# Altium integrated library AD8065.IntLib: 1 symbol
Pins are listed as number, name and electrical type; pins without a type are passive.

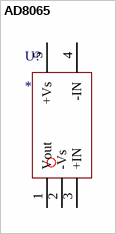
[diagram p0: symbol AD8065]

## AD8065
designator U?
footprint AD8065(SOT95P280X145-5N) (SOT23, 5-Leads, Body 2.90x2.80mm, Pitch 0.95mm, IPC Medium Density)
pins: 1 Vout, 2 -Vs, 3 +IN, 4 -IN, 5 +Vs